# Altium footprint library PcbLib1.PcbLib: 3 footprints
Each footprint in its own frame and in the unit in brackets; x right, y up, seen from the top. Pads: shape width x height; smd on the part's side, far side on the other; paste and mask are expansions set on the pad; w line width, h text height; cw(c..) or ccw(c..) is an arc to the next point about the centre after c.
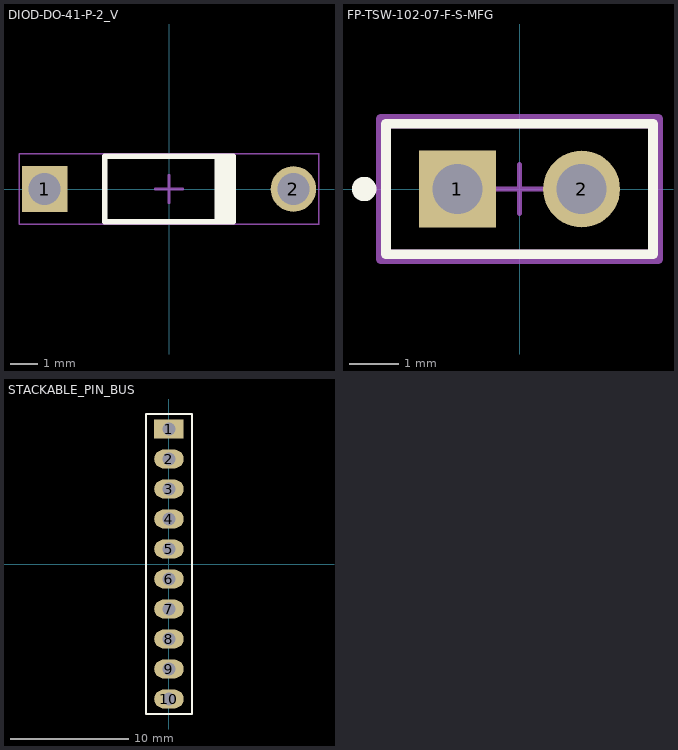
[diagram p0: the footprints below, top view; thin cyan lines are the x and y axes]

## DIOD-DO-41-P-2_V [mm] "2-Leads, Axial Lead, Body 4.635x2.36mm, Pin Spacing 9mm"
height 2.36
pads (2):
  rect 1.65x1.65 hole 1.15: 1(-4.5,0)
  round 1.65 hole 1.15: 2(4.5,0)
Top Overlay:
  rectangle: 1.651,-1.18 2.317,1.18
  lines w0.2: -2.318,-1.18 -2.318,1.18 2.318,1.18 2.318,-1.18 -2.318,-1.18
Top 3D Body:
  lines w0.1: -2.318,-1.18 2.318,-1.18 2.318,1.18 -2.318,1.18 -2.318,-1.18
Top Courtyard:
  lines w0.05: -5.425,-1.28 -5.425,1.28 5.425,1.28 5.425,-1.28 -5.425,-1.28
  lines w0.1: -0.5,0 0.5,0 ; 0,-0.5 0,0.5
3D body: height 2.35, standoff 0, extent -2.317,-1.18 2.317,1.175
3D body: height 1.18, standoff -2, extent 4.068,-0.431 4.929,0.431
3D body: height 1.61, standoff 0.75, extent 4.069,-0.43 4.929,0.43
3D body: height 1.61, standoff 0.75, extent 2.317,-0.431 4.499,0.431
3D body: height 1.61, standoff 0.75, extent -4.499,-0.431 -2.317,0.431
3D body: height 1.61, standoff 0.75, extent -4.929,-0.43 -4.069,0.43
3D body: height 1.18, standoff -2, extent -4.929,-0.431 -4.068,0.431

## FP-TSW-102-07-F-S-MFG [mm]
pads (2):
  rect 1.57x1.57 hole 1.02 paste-2539.97 mask+0: 1(-1.27,0)
  round 1.57 hole 1.02 paste-2539.97 mask+0: 2(1.27,0)
Top Overlay:
  circle w0.25: c-3.175,0 r0.125
  lines w0.2: -2.73,-1.335 2.73,-1.335 2.73,1.335 -2.73,1.335 -2.73,-1.335
Top Assembly:
  lines w0.2: -2.83,-1.435 2.83,-1.435 2.83,1.435 -2.83,1.435 -2.83,-1.435
Top 3D Body:
  lines w0.2: -2.73,-1.335 2.73,-1.335 2.73,1.335 -2.73,1.335 -2.73,-1.335
Top Courtyard:
  lines w0.2: -2.83,-1.435 2.83,-1.435 2.83,1.435 -2.83,1.435 -2.83,-1.435
Top Component Center:
  lines w0.1: -0.5,0 0.5,0 ; 0,-0.5 0,0.5
3D body "Conn_Samtec_TSW-102-07-F-S_eec.STEP": height 0.25, standoff 0, extent -2.83,-1.435 2.83,1.435

## STACKABLE_PIN_BUS [mm]
pads (10):
  rect 2.5x1.6 hole 1.1: 1(0,11.43)
  oval 2.5x1.6 hole 1.1: 2(0,8.89) 3(0,6.35) 4(0,3.81) 5(0,1.27) 6(0,-1.27) 7(0,-3.81) 8(0,-6.35) 9(0,-8.89) 10(0,-11.43)
Top Overlay:
  lines w0.2: -1.94,-12.7 1.95,-12.7 1.95,12.7 -1.94,12.7 -1.94,-12.7
3D body "Pin bus x10.STEP": height 8, standoff -9, extent -1.245,-12.685 1.295,12.715